# Altium footprint library Connector_PCBEdge.PcbLib: 101 footprints (part 3 of 7)
Each footprint in its own frame and in the unit in brackets; x right, y up, seen from the top. Pads: shape width x height; smd on the part's side, far side on the other; paste and mask are expansions set on the pad; w line width, h text height; cw(c..) or ccw(c..) is an arc to the next point about the centre after c.
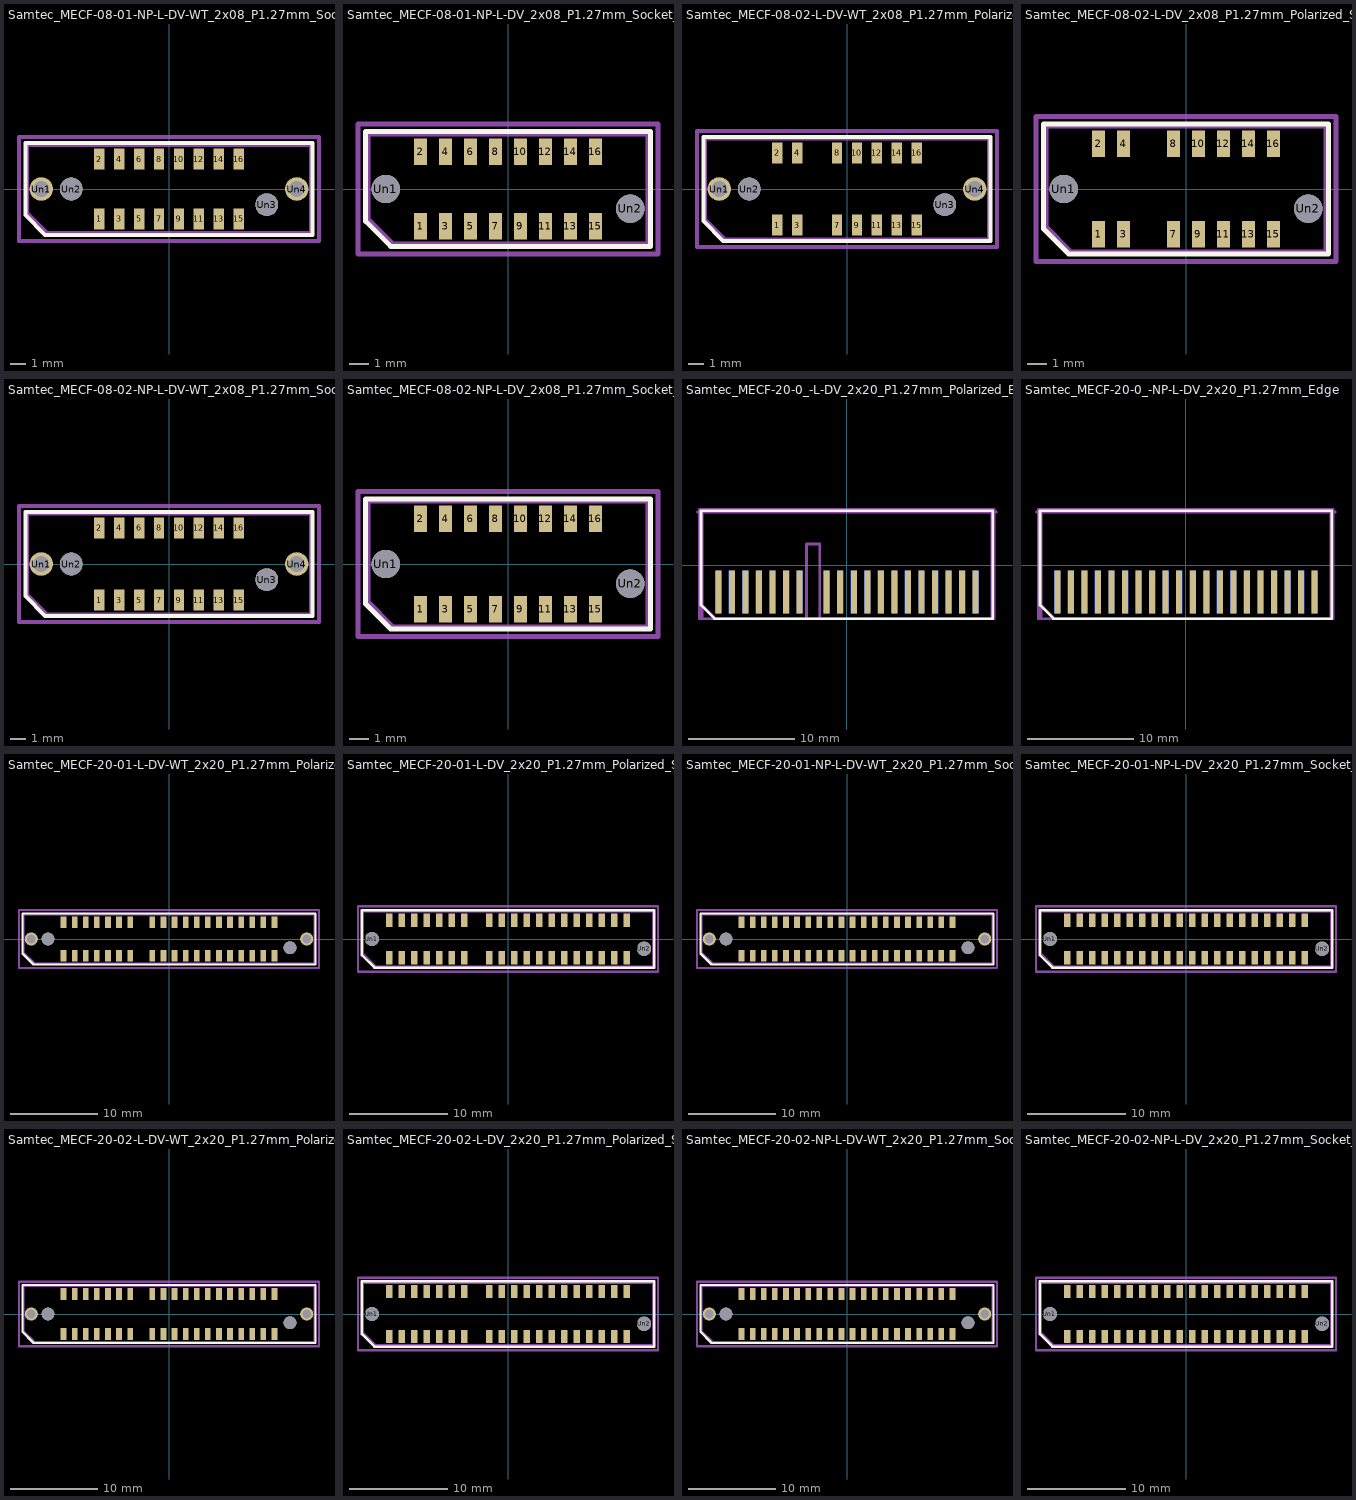
[diagram p2: the footprints below, top view; thin cyan lines are the x and y axes]

## Samtec_MECF-08-01-NP-L-DV-WT_2x08_P1.27mm_Socket_Horizontal [mm]
pads (20):
  rect 0.66x1.35 smd: 1(-4.445,-1.905) 2(-4.445,1.905) 3(-3.175,-1.905) 4(-3.175,1.905) 5(-1.905,-1.905) 6(-1.905,1.905) 7(-0.635,-1.905) 8(-0.635,1.905) 9(0.635,-1.905) 10(0.635,1.905) 11(1.905,-1.905) 12(1.905,1.905) 13(3.175,-1.905) 14(3.175,1.905) 15(4.445,-1.905) 16(4.445,1.905)
  round 1.5 hole 1: Un1(-8.13,0) Un4(8.13,0)
  round 1.45 hole 1.45: Un2(-6.225,0) Un3(6.225,-1)
F.SilkS:
  lines w0.254: -9.15,-1.65 -7.88,-2.92 9.15,-2.92 9.15,2.92 -9.15,2.92 -9.15,-1.65
Top Assembly:
  lines w0.254: -9.04,-1.535 -7.77,-2.805 9.04,-2.805 9.04,2.805 -9.04,2.805 -9.04,-1.535
  text "'.Designator'" at -4.047,-0.84 h1
Top Courtyard:
  lines w0.254: -9.55,-3.31 9.55,-3.31 9.55,3.31 -9.55,3.31 -9.55,-3.31
Top Designator:
  text ".Designator" at -7.618,-0.508 h1.52

## Samtec_MECF-08-01-NP-L-DV_2x08_P1.27mm_Socket_Horizontal [mm]
pads (18):
  rect 0.66x1.35 smd: 1(-4.445,-1.905) 2(-4.445,1.905) 3(-3.175,-1.905) 4(-3.175,1.905) 5(-1.905,-1.905) 6(-1.905,1.905) 7(-0.635,-1.905) 8(-0.635,1.905) 9(0.635,-1.905) 10(0.635,1.905) 11(1.905,-1.905) 12(1.905,1.905) 13(3.175,-1.905) 14(3.175,1.905) 15(4.445,-1.905) 16(4.445,1.905)
  round 1.45 hole 1.45: Un1(-6.225,0) Un2(6.225,-1)
F.SilkS:
  lines w0.254: -7.25,-1.65 -5.98,-2.92 7.25,-2.92 7.25,2.92 -7.25,2.92 -7.25,-1.65
Top Assembly:
  lines w0.254: -7.135,-1.535 -5.865,-2.805 7.135,-2.805 7.135,2.805 -7.135,2.805 -7.135,-1.535
  text "'.Designator'" at -4.047,-0.84 h1
Top Courtyard:
  lines w0.254: -7.64,-3.31 7.64,-3.31 7.64,3.31 -7.64,3.31 -7.64,-3.31
Top Designator:
  text ".Designator" at -7.618,-0.508 h1.52

## Samtec_MECF-08-02-L-DV-WT_2x08_P1.27mm_Polarized_Socket_Horizontal [mm]
pads (18):
  rect 0.66x1.35 smd: 1(-4.445,-2.3) 2(-4.445,2.3) 3(-3.175,-2.3) 4(-3.175,2.3) 7(-0.635,-2.3) 8(-0.635,2.3) 9(0.635,-2.3) 10(0.635,2.3) 11(1.905,-2.3) 12(1.905,2.3) 13(3.175,-2.3) 14(3.175,2.3) 15(4.445,-2.3) 16(4.445,2.3)
  round 1.5 hole 1: Un1(-8.13,0) Un4(8.13,0)
  round 1.45 hole 1.45: Un2(-6.225,0) Un3(6.225,-1)
F.SilkS:
  lines w0.254: -9.15,-2.04 -7.88,-3.31 9.15,-3.31 9.15,3.31 -9.15,3.31 -9.15,-2.04
Top Assembly:
  lines w0.254: -9.04,-1.93 -7.77,-3.2 9.04,-3.2 9.04,3.2 -9.04,3.2 -9.04,-1.93
  text "'.Designator'" at -4.047,-0.84 h1
Top Courtyard:
  lines w0.254: -9.55,-3.7 9.55,-3.7 9.55,3.7 -9.55,3.7 -9.55,-3.7
Top Designator:
  text ".Designator" at -7.618,-0.508 h1.52

## Samtec_MECF-08-02-L-DV_2x08_P1.27mm_Polarized_Socket_Horizontal [mm]
pads (16):
  rect 0.66x1.35 smd: 1(-4.445,-2.3) 2(-4.445,2.3) 3(-3.175,-2.3) 4(-3.175,2.3) 7(-0.635,-2.3) 8(-0.635,2.3) 9(0.635,-2.3) 10(0.635,2.3) 11(1.905,-2.3) 12(1.905,2.3) 13(3.175,-2.3) 14(3.175,2.3) 15(4.445,-2.3) 16(4.445,2.3)
  round 1.45 hole 1.45: Un1(-6.225,0) Un2(6.225,-1)
F.SilkS:
  lines w0.254: -7.25,-2.04 -5.98,-3.31 7.25,-3.31 7.25,3.31 -7.25,3.31 -7.25,-2.04
Top Assembly:
  lines w0.254: -7.135,-1.93 -5.865,-3.2 7.135,-3.2 7.135,3.2 -7.135,3.2 -7.135,-1.93
  text "'.Designator'" at -4.047,-0.84 h1
Top Courtyard:
  lines w0.254: -7.64,-3.7 7.64,-3.7 7.64,3.7 -7.64,3.7 -7.64,-3.7
Top Designator:
  text ".Designator" at -7.618,-0.508 h1.52

## Samtec_MECF-08-02-NP-L-DV-WT_2x08_P1.27mm_Socket_Horizontal [mm]
pads (20):
  rect 0.66x1.35 smd: 1(-4.445,-2.3) 2(-4.445,2.3) 3(-3.175,-2.3) 4(-3.175,2.3) 5(-1.905,-2.3) 6(-1.905,2.3) 7(-0.635,-2.3) 8(-0.635,2.3) 9(0.635,-2.3) 10(0.635,2.3) 11(1.905,-2.3) 12(1.905,2.3) 13(3.175,-2.3) 14(3.175,2.3) 15(4.445,-2.3) 16(4.445,2.3)
  round 1.5 hole 1: Un1(-8.13,0) Un4(8.13,0)
  round 1.45 hole 1.45: Un2(-6.225,0) Un3(6.225,-1)
F.SilkS:
  lines w0.254: -9.15,-2.04 -7.88,-3.31 9.15,-3.31 9.15,3.31 -9.15,3.31 -9.15,-2.04
Top Assembly:
  lines w0.254: -9.04,-1.93 -7.77,-3.2 9.04,-3.2 9.04,3.2 -9.04,3.2 -9.04,-1.93
  text "'.Designator'" at -4.047,-0.84 h1
Top Courtyard:
  lines w0.254: -9.55,-3.7 9.55,-3.7 9.55,3.7 -9.55,3.7 -9.55,-3.7
Top Designator:
  text ".Designator" at -7.618,-0.508 h1.52

## Samtec_MECF-08-02-NP-L-DV_2x08_P1.27mm_Socket_Horizontal [mm]
pads (18):
  rect 0.66x1.35 smd: 1(-4.445,-2.3) 2(-4.445,2.3) 3(-3.175,-2.3) 4(-3.175,2.3) 5(-1.905,-2.3) 6(-1.905,2.3) 7(-0.635,-2.3) 8(-0.635,2.3) 9(0.635,-2.3) 10(0.635,2.3) 11(1.905,-2.3) 12(1.905,2.3) 13(3.175,-2.3) 14(3.175,2.3) 15(4.445,-2.3) 16(4.445,2.3)
  round 1.45 hole 1.45: Un1(-6.225,0) Un2(6.225,-1)
F.SilkS:
  lines w0.254: -7.25,-2.04 -5.98,-3.31 7.25,-3.31 7.25,3.31 -7.25,3.31 -7.25,-2.04
Top Assembly:
  lines w0.254: -7.135,-1.93 -5.865,-3.2 7.135,-3.2 7.135,3.2 -7.135,3.2 -7.135,-1.93
  text "'.Designator'" at -4.047,-0.84 h1
Top Courtyard:
  lines w0.254: -7.64,-3.7 7.64,-3.7 7.64,3.7 -7.64,3.7 -7.64,-3.7
Top Designator:
  text ".Designator" at -7.618,-0.508 h1.52

## Samtec_MECF-20-0_-L-DV_2x20_P1.27mm_Polarized_Edge [mm]
pads (38):
  rect 0.56x4 smd: 1(-12.055,-2.5) 3(-10.785,-2.5) 5(-9.515,-2.5) 7(-8.245,-2.5) 9(-6.975,-2.5) 11(-5.705,-2.5) 13(-4.435,-2.5) 17(-1.895,-2.5) 19(-0.625,-2.5) 21(0.645,-2.5) 23(1.915,-2.5) 25(3.185,-2.5) 27(4.455,-2.5) 29(5.725,-2.5) 31(6.995,-2.5) 33(8.265,-2.5) 35(9.535,-2.5) 37(10.805,-2.5) 39(12.075,-2.5)
  rect 0.56x4 smd far side: 2(-12.055,-2.5) 4(-10.785,-2.5) 6(-9.515,-2.5) 8(-8.245,-2.5) 10(-6.975,-2.5) 12(-5.705,-2.5) 14(-4.435,-2.5) 18(-1.895,-2.5) 20(-0.625,-2.5) 22(0.645,-2.5) 24(1.915,-2.5) 26(3.185,-2.5) 28(4.455,-2.5) 30(5.725,-2.5) 32(6.995,-2.5) 34(8.265,-2.5) 36(9.535,-2.5) 38(10.805,-2.5) 40(12.075,-2.5)
F.SilkS:
  lines w0.254: -13.68,-3.73 -12.41,-5 13.68,-5 13.68,5.11 -13.68,5.11 -13.68,-3.73
B.SilkS:
  lines w0.254: -13.68,-5 13.68,-5 13.68,5.11 -13.68,5.11 -13.68,-5
Top Assembly:
  lines w0.254: -13.575,-3.73 -12.305,-5 13.575,-5 13.575,5 -13.575,5 -13.575,-3.73
  text "'.Designator'" at -4.047,1.7 h1
Bottom Assembly:
  lines w0.254: -13.575,-5 13.575,-5 13.575,5 -13.575,5 -13.575,-5
Top Courtyard:
  lines w0.254: -13.82,-5 13.82,-5 13.82,5.25 -13.82,5.25 -13.82,-5
Bottom Courtyard:
  lines w0.254: -13.82,-5 13.82,-5 13.82,5.25 -13.82,5.25 -13.82,-5
Top Designator:
  text ".Designator" at -7.618,-0.383 h1.52
Board Shape:
  lines w0.254: -14,5 -13.575,5 -13.575,-5 -3.785,-5 -3.785,2 -2.545,2 -2.545,-5 13.575,-5 13.575,5 14,5

## Samtec_MECF-20-0_-NP-L-DV_2x20_P1.27mm_Edge [mm]
pads (40):
  rect 0.56x4 smd: 1(-12.055,-2.5) 3(-10.785,-2.5) 5(-9.515,-2.5) 7(-8.245,-2.5) 9(-6.975,-2.5) 11(-5.705,-2.5) 13(-4.435,-2.5) 15(-3.165,-2.5) 17(-1.895,-2.5) 19(-0.625,-2.5) 21(0.645,-2.5) 23(1.915,-2.5) 25(3.185,-2.5) 27(4.455,-2.5) 29(5.725,-2.5) 31(6.995,-2.5) 33(8.265,-2.5) 35(9.535,-2.5) 37(10.805,-2.5) 39(12.075,-2.5)
  rect 0.56x4 smd far side: 2(-12.055,-2.5) 4(-10.785,-2.5) 6(-9.515,-2.5) 8(-8.245,-2.5) 10(-6.975,-2.5) 12(-5.705,-2.5) 14(-4.435,-2.5) 16(-3.165,-2.5) 18(-1.895,-2.5) 20(-0.625,-2.5) 22(0.645,-2.5) 24(1.915,-2.5) 26(3.185,-2.5) 28(4.455,-2.5) 30(5.725,-2.5) 32(6.995,-2.5) 34(8.265,-2.5) 36(9.535,-2.5) 38(10.805,-2.5) 40(12.075,-2.5)
F.SilkS:
  lines w0.254: -13.68,-3.73 -12.41,-5 13.68,-5 13.68,5.11 -13.68,5.11 -13.68,-3.73
B.SilkS:
  lines w0.254: -13.68,-5 13.68,-5 13.68,5.11 -13.68,5.11 -13.68,-5
Top Assembly:
  lines w0.254: -13.575,-3.73 -12.305,-5 13.575,-5 13.575,5 -13.575,5 -13.575,-3.73
  text "'.Designator'" at -4.047,1.7 h1
Bottom Assembly:
  lines w0.254: -13.575,-5 13.575,-5 13.575,5 -13.575,5 -13.575,-5
Top Courtyard:
  lines w0.254: -13.82,-5 13.82,-5 13.82,5.25 -13.82,5.25 -13.82,-5
Bottom Courtyard:
  lines w0.254: -13.82,-5 13.82,-5 13.82,5.25 -13.82,5.25 -13.82,-5
Top Designator:
  text ".Designator" at -7.618,-0.383 h1.52
Board Shape:
  lines w0.254: -14,5 -13.575,5 -13.575,-5 13.575,-5 13.575,5 14,5

## Samtec_MECF-20-01-L-DV-WT_2x20_P1.27mm_Polarized_Socket_Horizontal [mm]
pads (42):
  rect 0.66x1.35 smd: 1(-12.065,-1.905) 2(-12.065,1.905) 3(-10.795,-1.905) 4(-10.795,1.905) 5(-9.525,-1.905) 6(-9.525,1.905) 7(-8.255,-1.905) 8(-8.255,1.905) 9(-6.985,-1.905) 10(-6.985,1.905) 11(-5.715,-1.905) 12(-5.715,1.905) 13(-4.445,-1.905) 14(-4.445,1.905) 17(-1.905,-1.905) 18(-1.905,1.905) 19(-0.635,-1.905) 20(-0.635,1.905) 21(0.635,-1.905) 22(0.635,1.905) 23(1.905,-1.905) 24(1.905,1.905) 25(3.175,-1.905) 26(3.175,1.905) 27(4.445,-1.905) 28(4.445,1.905) 29(5.715,-1.905) 30(5.715,1.905) 31(6.985,-1.905) 32(6.985,1.905) 33(8.255,-1.905) 34(8.255,1.905) 35(9.525,-1.905) 36(9.525,1.905) 37(10.795,-1.905) 38(10.795,1.905) 39(12.065,-1.905) 40(12.065,1.905)
  round 1.5 hole 1: Un1(-15.75,0) Un4(15.75,0)
  round 1.45 hole 1.45: Un2(-13.845,0) Un3(13.845,-1)
F.SilkS:
  lines w0.254: -16.77,-1.65 -15.5,-2.92 16.77,-2.92 16.77,2.92 -16.77,2.92 -16.77,-1.65
Top Assembly:
  lines w0.254: -16.66,-1.535 -15.39,-2.805 16.66,-2.805 16.66,2.805 -16.66,2.805 -16.66,-1.535
  text "'.Designator'" at -4.047,-0.84 h1
Top Courtyard:
  lines w0.254: -17.16,-3.31 17.16,-3.31 17.16,3.31 -17.16,3.31 -17.16,-3.31
Top Designator:
  text ".Designator" at -7.618,-0.508 h1.52

## Samtec_MECF-20-01-L-DV_2x20_P1.27mm_Polarized_Socket_Horizontal [mm]
pads (40):
  rect 0.66x1.35 smd: 1(-12.065,-1.905) 2(-12.065,1.905) 3(-10.795,-1.905) 4(-10.795,1.905) 5(-9.525,-1.905) 6(-9.525,1.905) 7(-8.255,-1.905) 8(-8.255,1.905) 9(-6.985,-1.905) 10(-6.985,1.905) 11(-5.715,-1.905) 12(-5.715,1.905) 13(-4.445,-1.905) 14(-4.445,1.905) 17(-1.905,-1.905) 18(-1.905,1.905) 19(-0.635,-1.905) 20(-0.635,1.905) 21(0.635,-1.905) 22(0.635,1.905) 23(1.905,-1.905) 24(1.905,1.905) 25(3.175,-1.905) 26(3.175,1.905) 27(4.445,-1.905) 28(4.445,1.905) 29(5.715,-1.905) 30(5.715,1.905) 31(6.985,-1.905) 32(6.985,1.905) 33(8.255,-1.905) 34(8.255,1.905) 35(9.525,-1.905) 36(9.525,1.905) 37(10.795,-1.905) 38(10.795,1.905) 39(12.065,-1.905) 40(12.065,1.905)
  round 1.45 hole 1.45: Un1(-13.845,0) Un2(13.845,-1)
F.SilkS:
  lines w0.254: -14.87,-1.65 -13.6,-2.92 14.87,-2.92 14.87,2.92 -14.87,2.92 -14.87,-1.65
Top Assembly:
  lines w0.254: -14.755,-1.535 -13.485,-2.805 14.755,-2.805 14.755,2.805 -14.755,2.805 -14.755,-1.535
  text "'.Designator'" at -4.047,-0.84 h1
Top Courtyard:
  lines w0.254: -15.26,-3.31 15.26,-3.31 15.26,3.31 -15.26,3.31 -15.26,-3.31
Top Designator:
  text ".Designator" at -7.618,-0.508 h1.52

## Samtec_MECF-20-01-NP-L-DV-WT_2x20_P1.27mm_Socket_Horizontal [mm]
pads (44):
  rect 0.66x1.35 smd: 1(-12.065,-1.905) 2(-12.065,1.905) 3(-10.795,-1.905) 4(-10.795,1.905) 5(-9.525,-1.905) 6(-9.525,1.905) 7(-8.255,-1.905) 8(-8.255,1.905) 9(-6.985,-1.905) 10(-6.985,1.905) 11(-5.715,-1.905) 12(-5.715,1.905) 13(-4.445,-1.905) 14(-4.445,1.905) 15(-3.175,-1.905) 16(-3.175,1.905) 17(-1.905,-1.905) 18(-1.905,1.905) 19(-0.635,-1.905) 20(-0.635,1.905) 21(0.635,-1.905) 22(0.635,1.905) 23(1.905,-1.905) 24(1.905,1.905) 25(3.175,-1.905) 26(3.175,1.905) 27(4.445,-1.905) 28(4.445,1.905) 29(5.715,-1.905) 30(5.715,1.905) 31(6.985,-1.905) 32(6.985,1.905) 33(8.255,-1.905) 34(8.255,1.905) 35(9.525,-1.905) 36(9.525,1.905) 37(10.795,-1.905) 38(10.795,1.905) 39(12.065,-1.905) 40(12.065,1.905)
  round 1.5 hole 1: Un1(-15.75,0) Un4(15.75,0)
  round 1.45 hole 1.45: Un2(-13.845,0) Un3(13.845,-1)
F.SilkS:
  lines w0.254: -16.77,-1.65 -15.5,-2.92 16.77,-2.92 16.77,2.92 -16.77,2.92 -16.77,-1.65
Top Assembly:
  lines w0.254: -16.66,-1.535 -15.39,-2.805 16.66,-2.805 16.66,2.805 -16.66,2.805 -16.66,-1.535
  text "'.Designator'" at -4.047,-0.84 h1
Top Courtyard:
  lines w0.254: -17.16,-3.31 17.16,-3.31 17.16,3.31 -17.16,3.31 -17.16,-3.31
Top Designator:
  text ".Designator" at -7.618,-0.508 h1.52

## Samtec_MECF-20-01-NP-L-DV_2x20_P1.27mm_Socket_Horizontal [mm]
pads (42):
  rect 0.66x1.35 smd: 1(-12.065,-1.905) 2(-12.065,1.905) 3(-10.795,-1.905) 4(-10.795,1.905) 5(-9.525,-1.905) 6(-9.525,1.905) 7(-8.255,-1.905) 8(-8.255,1.905) 9(-6.985,-1.905) 10(-6.985,1.905) 11(-5.715,-1.905) 12(-5.715,1.905) 13(-4.445,-1.905) 14(-4.445,1.905) 15(-3.175,-1.905) 16(-3.175,1.905) 17(-1.905,-1.905) 18(-1.905,1.905) 19(-0.635,-1.905) 20(-0.635,1.905) 21(0.635,-1.905) 22(0.635,1.905) 23(1.905,-1.905) 24(1.905,1.905) 25(3.175,-1.905) 26(3.175,1.905) 27(4.445,-1.905) 28(4.445,1.905) 29(5.715,-1.905) 30(5.715,1.905) 31(6.985,-1.905) 32(6.985,1.905) 33(8.255,-1.905) 34(8.255,1.905) 35(9.525,-1.905) 36(9.525,1.905) 37(10.795,-1.905) 38(10.795,1.905) 39(12.065,-1.905) 40(12.065,1.905)
  round 1.45 hole 1.45: Un1(-13.845,0) Un2(13.845,-1)
F.SilkS:
  lines w0.254: -14.87,-1.65 -13.6,-2.92 14.87,-2.92 14.87,2.92 -14.87,2.92 -14.87,-1.65
Top Assembly:
  lines w0.254: -14.755,-1.535 -13.485,-2.805 14.755,-2.805 14.755,2.805 -14.755,2.805 -14.755,-1.535
  text "'.Designator'" at -4.047,-0.84 h1
Top Courtyard:
  lines w0.254: -15.26,-3.31 15.26,-3.31 15.26,3.31 -15.26,3.31 -15.26,-3.31
Top Designator:
  text ".Designator" at -7.618,-0.508 h1.52

## Samtec_MECF-20-02-L-DV-WT_2x20_P1.27mm_Polarized_Socket_Horizontal [mm]
pads (42):
  rect 0.66x1.35 smd: 1(-12.065,-2.3) 2(-12.065,2.3) 3(-10.795,-2.3) 4(-10.795,2.3) 5(-9.525,-2.3) 6(-9.525,2.3) 7(-8.255,-2.3) 8(-8.255,2.3) 9(-6.985,-2.3) 10(-6.985,2.3) 11(-5.715,-2.3) 12(-5.715,2.3) 13(-4.445,-2.3) 14(-4.445,2.3) 17(-1.905,-2.3) 18(-1.905,2.3) 19(-0.635,-2.3) 20(-0.635,2.3) 21(0.635,-2.3) 22(0.635,2.3) 23(1.905,-2.3) 24(1.905,2.3) 25(3.175,-2.3) 26(3.175,2.3) 27(4.445,-2.3) 28(4.445,2.3) 29(5.715,-2.3) 30(5.715,2.3) 31(6.985,-2.3) 32(6.985,2.3) 33(8.255,-2.3) 34(8.255,2.3) 35(9.525,-2.3) 36(9.525,2.3) 37(10.795,-2.3) 38(10.795,2.3) 39(12.065,-2.3) 40(12.065,2.3)
  round 1.5 hole 1: Un1(-15.75,0) Un4(15.75,0)
  round 1.45 hole 1.45: Un2(-13.845,0) Un3(13.845,-1)
F.SilkS:
  lines w0.254: -16.77,-2.04 -15.5,-3.31 16.77,-3.31 16.77,3.31 -16.77,3.31 -16.77,-2.04
Top Assembly:
  lines w0.254: -16.66,-1.93 -15.39,-3.2 16.66,-3.2 16.66,3.2 -16.66,3.2 -16.66,-1.93
  text "'.Designator'" at -4.047,-0.84 h1
Top Courtyard:
  lines w0.254: -17.16,-3.7 17.16,-3.7 17.16,3.7 -17.16,3.7 -17.16,-3.7
Top Designator:
  text ".Designator" at -7.618,-0.508 h1.52

## Samtec_MECF-20-02-L-DV_2x20_P1.27mm_Polarized_Socket_Horizontal [mm]
pads (40):
  rect 0.66x1.35 smd: 1(-12.065,-2.3) 2(-12.065,2.3) 3(-10.795,-2.3) 4(-10.795,2.3) 5(-9.525,-2.3) 6(-9.525,2.3) 7(-8.255,-2.3) 8(-8.255,2.3) 9(-6.985,-2.3) 10(-6.985,2.3) 11(-5.715,-2.3) 12(-5.715,2.3) 13(-4.445,-2.3) 14(-4.445,2.3) 17(-1.905,-2.3) 18(-1.905,2.3) 19(-0.635,-2.3) 20(-0.635,2.3) 21(0.635,-2.3) 22(0.635,2.3) 23(1.905,-2.3) 24(1.905,2.3) 25(3.175,-2.3) 26(3.175,2.3) 27(4.445,-2.3) 28(4.445,2.3) 29(5.715,-2.3) 30(5.715,2.3) 31(6.985,-2.3) 32(6.985,2.3) 33(8.255,-2.3) 34(8.255,2.3) 35(9.525,-2.3) 36(9.525,2.3) 37(10.795,-2.3) 38(10.795,2.3) 39(12.065,-2.3) 40(12.065,2.3)
  round 1.45 hole 1.45: Un1(-13.845,0) Un2(13.845,-1)
F.SilkS:
  lines w0.254: -14.87,-2.04 -13.6,-3.31 14.87,-3.31 14.87,3.31 -14.87,3.31 -14.87,-2.04
Top Assembly:
  lines w0.254: -14.755,-1.93 -13.485,-3.2 14.755,-3.2 14.755,3.2 -14.755,3.2 -14.755,-1.93
  text "'.Designator'" at -4.047,-0.84 h1
Top Courtyard:
  lines w0.254: -15.26,-3.7 15.26,-3.7 15.26,3.7 -15.26,3.7 -15.26,-3.7
Top Designator:
  text ".Designator" at -7.618,-0.508 h1.52

## Samtec_MECF-20-02-NP-L-DV-WT_2x20_P1.27mm_Socket_Horizontal [mm]
pads (44):
  rect 0.66x1.35 smd: 1(-12.065,-2.3) 2(-12.065,2.3) 3(-10.795,-2.3) 4(-10.795,2.3) 5(-9.525,-2.3) 6(-9.525,2.3) 7(-8.255,-2.3) 8(-8.255,2.3) 9(-6.985,-2.3) 10(-6.985,2.3) 11(-5.715,-2.3) 12(-5.715,2.3) 13(-4.445,-2.3) 14(-4.445,2.3) 15(-3.175,-2.3) 16(-3.175,2.3) 17(-1.905,-2.3) 18(-1.905,2.3) 19(-0.635,-2.3) 20(-0.635,2.3) 21(0.635,-2.3) 22(0.635,2.3) 23(1.905,-2.3) 24(1.905,2.3) 25(3.175,-2.3) 26(3.175,2.3) 27(4.445,-2.3) 28(4.445,2.3) 29(5.715,-2.3) 30(5.715,2.3) 31(6.985,-2.3) 32(6.985,2.3) 33(8.255,-2.3) 34(8.255,2.3) 35(9.525,-2.3) 36(9.525,2.3) 37(10.795,-2.3) 38(10.795,2.3) 39(12.065,-2.3) 40(12.065,2.3)
  round 1.5 hole 1: Un1(-15.75,0) Un4(15.75,0)
  round 1.45 hole 1.45: Un2(-13.845,0) Un3(13.845,-1)
F.SilkS:
  lines w0.254: -16.77,-2.04 -15.5,-3.31 16.77,-3.31 16.77,3.31 -16.77,3.31 -16.77,-2.04
Top Assembly:
  lines w0.254: -16.66,-1.93 -15.39,-3.2 16.66,-3.2 16.66,3.2 -16.66,3.2 -16.66,-1.93
  text "'.Designator'" at -4.047,-0.84 h1
Top Courtyard:
  lines w0.254: -17.16,-3.7 17.16,-3.7 17.16,3.7 -17.16,3.7 -17.16,-3.7
Top Designator:
  text ".Designator" at -7.618,-0.508 h1.52

## Samtec_MECF-20-02-NP-L-DV_2x20_P1.27mm_Socket_Horizontal [mm]
pads (42):
  rect 0.66x1.35 smd: 1(-12.065,-2.3) 2(-12.065,2.3) 3(-10.795,-2.3) 4(-10.795,2.3) 5(-9.525,-2.3) 6(-9.525,2.3) 7(-8.255,-2.3) 8(-8.255,2.3) 9(-6.985,-2.3) 10(-6.985,2.3) 11(-5.715,-2.3) 12(-5.715,2.3) 13(-4.445,-2.3) 14(-4.445,2.3) 15(-3.175,-2.3) 16(-3.175,2.3) 17(-1.905,-2.3) 18(-1.905,2.3) 19(-0.635,-2.3) 20(-0.635,2.3) 21(0.635,-2.3) 22(0.635,2.3) 23(1.905,-2.3) 24(1.905,2.3) 25(3.175,-2.3) 26(3.175,2.3) 27(4.445,-2.3) 28(4.445,2.3) 29(5.715,-2.3) 30(5.715,2.3) 31(6.985,-2.3) 32(6.985,2.3) 33(8.255,-2.3) 34(8.255,2.3) 35(9.525,-2.3) 36(9.525,2.3) 37(10.795,-2.3) 38(10.795,2.3) 39(12.065,-2.3) 40(12.065,2.3)
  round 1.45 hole 1.45: Un1(-13.845,0) Un2(13.845,-1)
F.SilkS:
  lines w0.254: -14.87,-2.04 -13.6,-3.31 14.87,-3.31 14.87,3.31 -14.87,3.31 -14.87,-2.04
Top Assembly:
  lines w0.254: -14.755,-1.93 -13.485,-3.2 14.755,-3.2 14.755,3.2 -14.755,3.2 -14.755,-1.93
  text "'.Designator'" at -4.047,-0.84 h1
Top Courtyard:
  lines w0.254: -15.26,-3.7 15.26,-3.7 15.26,3.7 -15.26,3.7 -15.26,-3.7
Top Designator:
  text ".Designator" at -7.618,-0.508 h1.52